# EAGLE library part SINGLE-DIFFAMP-SD (library Opamp)
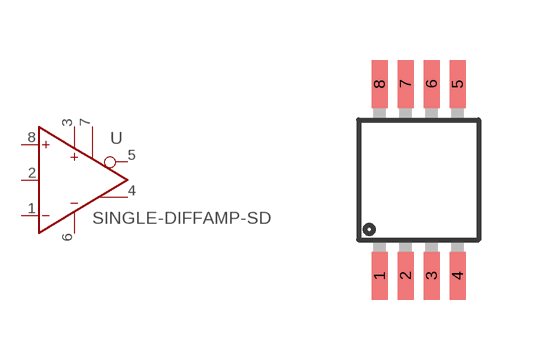
[diagram p2: symbol with the pads of MSOP8; footprint MSOP8]

Designator prefix U

## SINGLE-DIFFAMP-SD-MSOP8  [MSOP8]
1  IN-  in
2  COM  in
3  V+  in
4  OUT+  out
5  OUT-  out
6  V-  in
7  SD  in
8  IN+  in

## Footprint MSOP8 (pad centres in mm)
smd 0.4 x 1.2: 1 -0.975,-2.4; 2 -0.325,-2.4; 3 0.325,-2.4; 4 0.975,-2.4; 5 0.975,2.4; 6 0.325,2.4; 7 -0.325,2.4; 8 -0.975,2.4